# Altium footprint library SMD_button1.PcbLib: 9 footprints
Each footprint in its own frame and in the unit in brackets; x right, y up, seen from the top. Pads: shape width x height; smd on the part's side, far side on the other; paste and mask are expansions set on the pad; w line width, h text height; cw(c..) or ccw(c..) is an arc to the next point about the centre after c.
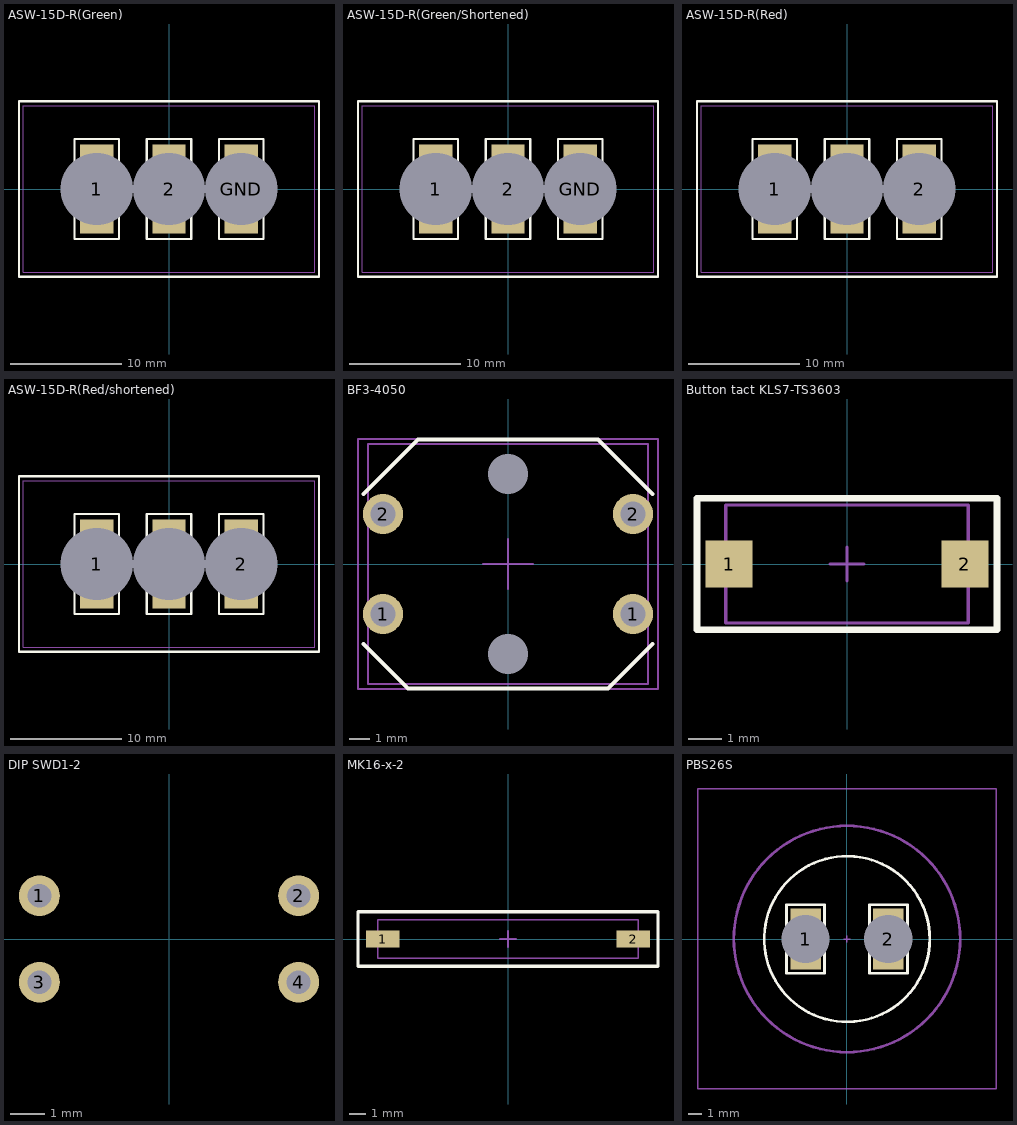
[diagram p0: the footprints below, top view; thin cyan lines are the x and y axes]

## ASW-15D-R(Green) [mm]
pads (3):
  rect 3x8 hole 6.5 square: 1(-6.5,0) 2(0,0) GND(6.5,0)
Top Overlay:
  lines w0.2: -13.5,-7.9 -13.5,7.9 13.5,7.9 13.5,-7.9 -13.5,-7.9 ; -8.5,-4.5 -4.5,-4.5 -4.5,4.5 -8.5,4.5 -8.5,-4.5 ; -2,-4.5 -2,4.5 2,4.5 2,-4.5 -2,-4.5 ; 4.5,-4.5 4.5,4.5 8.5,4.5 8.5,-4.5 4.5,-4.5
Top Assy:
  lines w0.1: -13.1,-7.5 13.1,-7.5 13.1,7.5 -13.1,7.5 -13.1,-7.5
Border (Mech15):
  lines w0.1: -13.5,-7.9 -13.5,7.9 13.5,7.9 13.5,-7.9 -13.5,-7.9
3D body "ASW-15D-R(GREEN).STEP": height 54, standoff -9, extent -13.1,-7.5 13.1,7.5

## ASW-15D-R(Green/Shortened) [mm]
pads (3):
  rect 3x8 hole 6.5 square: 1(-6.5,0) 2(0,0) GND(6.5,0)
Top Overlay:
  lines w0.2: -13.5,-7.9 -13.5,7.9 13.5,7.9 13.5,-7.9 -13.5,-7.9 ; -8.5,-4.5 -4.5,-4.5 -4.5,4.5 -8.5,4.5 -8.5,-4.5 ; -2,-4.5 -2,4.5 2,4.5 2,-4.5 -2,-4.5 ; 4.5,-4.5 4.5,4.5 8.5,4.5 8.5,-4.5 4.5,-4.5
Top Assy:
  lines w0.1: -13.1,-7.5 13.1,-7.5 13.1,7.5 -13.1,7.5 -13.1,-7.5
Border (Mech15):
  lines w0.1: -13.5,-7.9 -13.5,7.9 13.5,7.9 13.5,-7.9 -13.5,-7.9
3D body "ASW-15D-R(GREEN.Shortened).step": height 54, standoff -4, extent -13.1,-7.5 13.1,7.5

## ASW-15D-R(Red) [mm]
pads (3):
  rect 3x8 hole 6.5 square: 1(-6.5,0) 2(6.5,0) ""(0,0)
Top Overlay:
  lines w0.2: -13.5,-7.9 13.5,-7.9 13.5,7.9 -13.5,7.9 -13.5,-7.9 ; -8.5,-4.5 -8.5,4.5 -4.5,4.5 -4.5,-4.5 -8.5,-4.5 ; -2,-4.5 2,-4.5 2,4.5 -2,4.5 -2,-4.5 ; 4.5,-4.5 8.5,-4.5 8.5,4.5 4.5,4.5 4.5,-4.5
Top Assy:
  lines w0.1: -13.1,-7.5 -13.1,7.5 13.1,7.5 13.1,-7.5 -13.1,-7.5
Border (Mech15):
  lines w0.1: -13.5,-7.9 13.5,-7.9 13.5,7.9 -13.5,7.9 -13.5,-7.9
3D body "ASW-15D-R(RED).STEP": height 54, standoff -9, extent -13.1,-7.5 13.1,7.5

## ASW-15D-R(Red/shortened) [mm]
pads (3):
  rect 3x8 hole 6.5 square: 1(-6.5,0) 2(6.5,0) ""(0,0)
Top Overlay:
  lines w0.2: -13.5,-7.9 -13.5,7.9 13.5,7.9 13.5,-7.9 -13.5,-7.9 ; -8.5,-4.5 -4.5,-4.5 -4.5,4.5 -8.5,4.5 -8.5,-4.5 ; -2,-4.5 -2,4.5 2,4.5 2,-4.5 -2,-4.5 ; 4.5,-4.5 4.5,4.5 8.5,4.5 8.5,-4.5 4.5,-4.5
Top Assy:
  lines w0.1: -13.1,-7.5 13.1,-7.5 13.1,7.5 -13.1,7.5 -13.1,-7.5
Border (Mech15):
  lines w0.1: -13.5,-7.9 -13.5,7.9 13.5,7.9 13.5,-7.9 -13.5,-7.9
3D body "ASW-15D-R(RED.Shortened).step": height 54, standoff -4, extent -13.1,-7.5 13.1,7.5

## BF3-4050 [mm]
pads (6):
  round 2 hole 1.25: 1(-6.25,-2.5) 1(6.25,-2.5) 2(-6.25,2.5) 2(6.25,2.5)
  round 0 hole 2 unplated: ""(0,-4.5) ""(0,4.5)
Top Overlay:
  lines w0.2: -7.225,-4 -5,-6.225 5,-6.225 7.225,-4 ; -7.225,3.5 -4.5,6.225 4.5,6.225 7.225,3.5
Top Assy:
  lines w0.1: -7,-6 7,-6 7,6 -7,6 -7,-6
Border (Mech15):
  lines w0.1: -1.25,0 1.25,0 ; 0,-1.25 0,1.25 ; -7.5,-6.25 -7.5,6.25 7.5,6.25 7.5,-6.25 -7.5,-6.25
3D body "OMRON B3F 12mm TACT SWITCH.STEP": height 7.45, standoff -3.15, extent -7,-6 7,6
3D body "B3F-key-cap.SLDPRT": height 12, standoff 4.5, extent -6.45,-6.45 6.45,6.45

## Button tact KLS7-TS3603 [mm]
pads (2):
  rect 1.4x1.4 smd: 1(-3.5,0) 2(3.5,0)
Top Overlay:
  lines w0.2: -4.45,-1.95 4.45,-1.95 4.45,1.95 -4.45,1.95 -4.45,-1.95
Top Assy:
  lines w0.1: -3.6,-1.75 3.6,-1.75 3.6,1.75 -3.6,1.75 -3.6,-1.75
Border (Mech15):
  lines w0.1: -0.5,0 0.5,0 ; 0,-0.5 0,0.5 ; -4.45,-1.95 4.45,-1.95 4.45,1.95 -4.45,1.95 -4.45,-1.95
3D body "User Library-DTSM-31.STEP": height 4.3, standoff 0, extent -3.6,-1.75 3.6,1.75

## DIP SWD1-2 [mm]
pads (4):
  round 1.2 hole 0.7: 1(-3.81,1.27) 2(3.81,1.27) 3(-3.81,-1.27) 4(3.81,-1.27)
3D body "User Library-DS1040-02 (DIP_switch).step": height 6.8, standoff -3.85, extent -4.95,-3.29 4.95,3.25

## MK16-x-2 [mm]
pads (2):
  rect 2x1 smd: 1(-7.5,0) 2(7.5,0)
Top Overlay:
  lines w0.2: -8.975,-1.625 8.975,-1.625 8.975,1.625 -8.975,1.625 -8.975,-1.625
Top Assy:
  lines w0.1: -7.8,-1.15 -7.8,1.15 7.8,1.15 7.8,-1.15 -7.8,-1.15
Border (Mech15):
  lines w0.1: -0.5,0 0.5,0 ; 0,-0.5 0,0.5 ; -8.975,-1.625 -8.975,1.625 8.975,1.625 8.975,-1.625 -8.975,-1.625
3D body "Standex-Meder Electronics-MK16-x-2_WEB.step": height 2.41, standoff 0.01, extent -7.8,-1.15 7.8,1.15

## PBS26S [mm]
pads (2):
  rect 2.2x4.4 hole 3.5 square: 1(-3,0) 2(3,0)
Top Overlay:
  circle w0.2: c0,0 r6
  lines w0.2: -4.375,-2.475 -1.625,-2.475 -1.625,2.475 -4.375,2.475 -4.375,-2.475 ; 1.625,-2.475 1.625,2.475 4.375,2.475 4.375,-2.475 1.625,-2.475
Top Assy:
  lines w0.1: -10.817,-10.869 10.818,-10.869 10.818,10.869 -10.817,10.869 -10.817,-10.869
Border (Mech15):
  circle w0.1: c0,0 r6
  circle w0.2: c0,0 r8.2
  lines w0.1: -0.25,0 0.25,0 ; 0,-0.25 0,0.25
3D body "PB26S.STEP": height 20.5, standoff -5.5, extent -10.817,-10.869 10.818,10.869